# EAGLE library part PROCESSOR-SOCKET_PCB (library Cing Library)
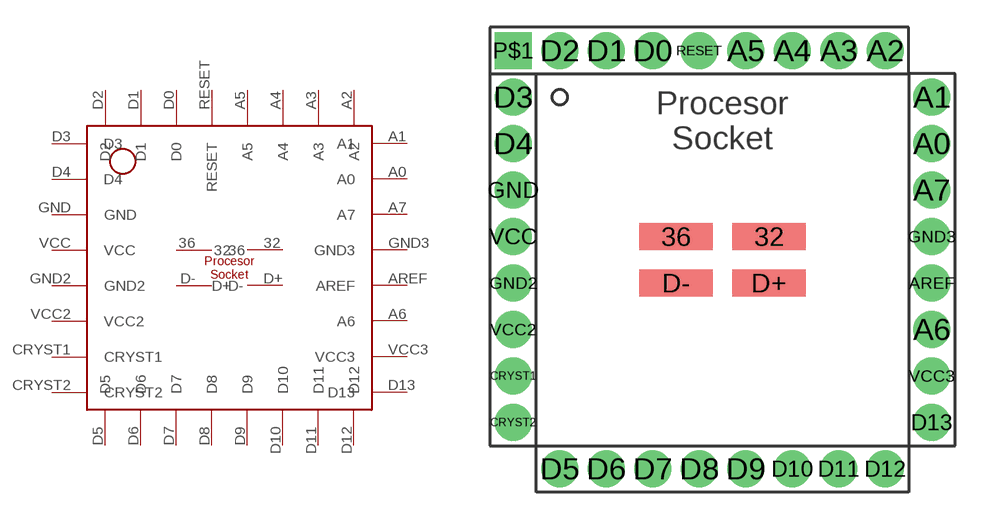
[diagram p3: symbol with the pads of PROCESSOR-SOCKET_PCB; footprint PROCESSOR-SOCKET_PCB]

Designator prefix -

## PROCESSOR-SOCKET_PCB  [PROCESSOR-SOCKET_PCB]
32  32
36  36
A0  A0
A1  A1
A2  A2
A3  A3
A4  A4
A5  A5
A6  A6
A7  A7
AREF  AREF
CRYST1  CRYST1
CRYST2  CRYST2
D0  D0
D1  D1
D2  D2
D3  D3
D4  D4
D5  D5
D6  D6
D7  D7
D8  D8
D9  D9
D10  D10
D11  D11
D12  D12
D13  D13
D+  D+
D-  D-
GND  GND
GND2  GND2
GND3  GND3
RESET  RESET
VCC  VCC
VCC2  VCC2
VCC3  VCC3

## Footprint PROCESSOR-SOCKET_PCB (pad centres in mm)
smd 4 x 1.5: 32 2.54,1.27; 36 -2.54,1.27; D+ 2.54,-1.27; D- -2.54,-1.27
drill 1 pad 2: A0 11.43,6.35; A1 11.43,8.89; A2 8.89,11.43; A3 6.35,11.43; A4 3.81,11.43; A5 1.27,11.43; A6 11.43,-3.81; A7 11.43,3.81; AREF 11.43,-1.27; CRYST1 -11.43,-6.35; CRYST2 -11.43,-8.89; D0 -3.81,11.43; D1 -6.35,11.43; D2 -8.89,11.43; D3 -11.43,8.89; D4 -11.43,6.35; D5 -8.89,-11.43; D6 -6.35,-11.43; D7 -3.81,-11.43; D8 -1.27,-11.43; D9 1.27,-11.43; D10 3.81,-11.43; D11 6.35,-11.43; D12 8.89,-11.43; D13 11.43,-8.89; GND -11.43,3.81; GND2 -11.43,-1.27; GND3 11.43,1.27; RESET -1.27,11.43; VCC -11.43,1.27; VCC2 -11.43,-3.81; VCC3 11.43,-6.35
drill 1 pad 2 square: P$1 -11.43,11.43